# Altium footprint library TXB0108PWR.PcbLib: 1 footprints
Each footprint in its own frame and in the unit in brackets; x right, y up, seen from the top. Pads: shape width x height; smd on the part's side, far side on the other; paste and mask are expansions set on the pad; w line width, h text height; cw(c..) or ccw(c..) is an arc to the next point about the centre after c.
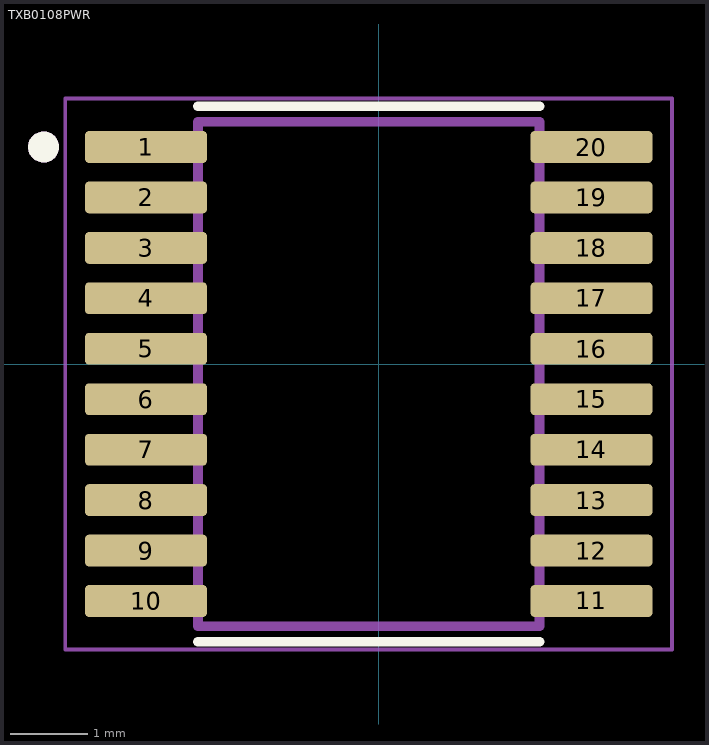
[diagram p0: the footprint, top view; thin cyan lines are the x and y axes]

## TXB0108PWR [mm]
pads (20):
  rrect25% 1.57x0.41 smd: 1(-2.997,2.798) 2(-2.997,2.148) 3(-2.997,1.498) 4(-2.997,0.848) 5(-2.997,0.198) 6(-2.997,-0.452) 7(-2.997,-1.102) 8(-2.997,-1.752) 9(-2.997,-2.402) 10(-2.997,-3.052) 11(2.743,-3.052) 12(2.743,-2.402) 13(2.743,-1.752) 14(2.743,-1.102) 15(2.743,-0.452) 16(2.743,0.198) 17(2.743,0.848) 18(2.743,1.498) 19(2.743,2.148) 20(2.743,2.798)
Top Overlay:
  circle w0.2: c-4.317,2.798 r0.1
  lines w0.127: -2.327,-3.577 2.073,-3.577 ; -2.327,3.323 2.073,3.323
Mechanical 13:
  circle w0.2: c-4.317,2.798 r0.1
  lines w0.127: -2.327,-3.377 -2.327,3.123 2.073,3.123 2.073,-3.377 -2.327,-3.377
Mechanical 15:
  lines w0.05: -4.037,-3.677 -4.037,3.423 3.783,3.423 3.783,-3.677 -4.037,-3.677
3D body "step_temp.STEP": height 1.2, standoff 0, extent -3.327,-3.377 3.073,3.123